# EAGLE library part XA16 (library connectors)
Connector 16 pins, alternating
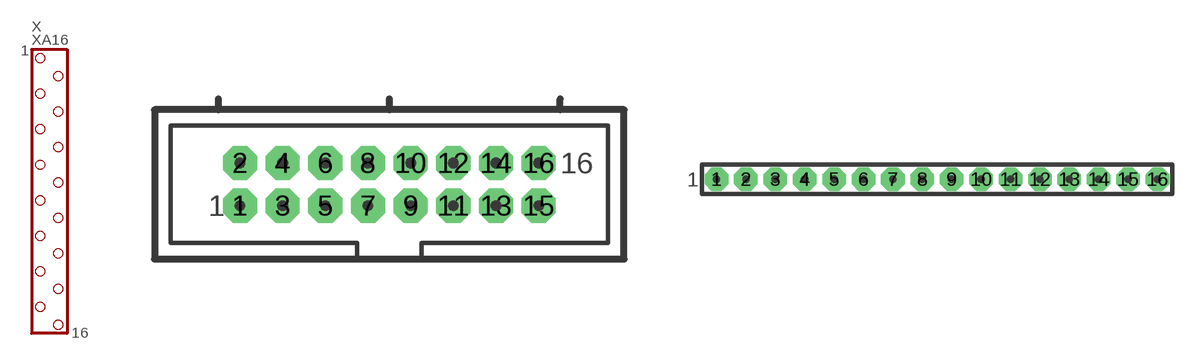
[diagram p4: symbol with the pads of X16N-IDC; footprints X16N-IDC, X16N-SIL]

Designator prefix X

## XA16I  [X16N-IDC]
1  1
2  2
3  3
4  4
5  5
6  6
7  7
8  8
9  9
10  10
11  11
12  12
13  13
14  14
15  15
16  16

## XA16N  [X16N-SIL]
Pads as for X16N-IDC

## XA16D  [X16N-DIL]
Pads as for X16N-IDC

## XA16DR  [X16R-DIL]
Pads as for X16N-IDC

## XA16IR  [X16R-IDC]
Pads as for X16N-IDC

## XA16L  [X16L-SIL]
Pads as for X16N-IDC

## XA16R  [X16R-SIL]
Pads as for X16N-IDC

## XA16  [X16N-IDC]
Pads as for X16N-IDC

## Footprint X16N-IDC (pad centres in mm)
Connector 16 pins, IDC
drill 0.889 pad 2.032 octagon: 1 -8.89,-1.27; 2 -8.89,1.27; 3 -6.35,-1.27; 4 -6.35,1.27; 5 -3.81,-1.27; 6 -3.81,1.27; 7 -1.27,-1.27; 8 -1.27,1.27; 9 1.27,-1.27; 10 1.27,1.27; 11 3.81,-1.27; 12 3.81,1.27; 13 6.35,-1.27; 14 6.35,1.27; 15 8.89,-1.27; 16 8.89,1.27

## Footprint X16N-SIL (pad centres in mm)
Connector 16 pins, SIL
drill 0.889 pad 2.032 octagon: 1 -19.05,0; 2 -16.51,0; 3 -13.97,0; 4 -11.43,0; 5 -8.89,0; 6 -6.35,0; 7 -3.81,0; 8 -1.27,0; 9 1.27,0; 10 3.81,0; 11 6.35,0; 12 8.89,0; 13 11.43,0; 14 13.97,0; 15 16.51,0; 16 19.05,0

## Footprint X16N-DIL (pad centres in mm)
Connector 16 pins, DIL
drill 0.889 pad 2.032 octagon: 1 -8.89,-1.27; 2 -8.89,1.27; 3 -6.35,-1.27; 4 -6.35,1.27; 5 -3.81,-1.27; 6 -3.81,1.27; 7 -1.27,-1.27; 8 -1.27,1.27; 9 1.27,-1.27; 10 1.27,1.27; 11 3.81,-1.27; 12 3.81,1.27; 13 6.35,-1.27; 14 6.35,1.27; 15 8.89,-1.27; 16 8.89,1.27

## Footprint X16R-DIL (pad centres in mm)
Connector 16 pins, DIL, reduced pads
drill 0.889 pad 1.397 square: 1 -8.89,-1.27; 2 -8.89,1.27; 3 -6.35,-1.27; 4 -6.35,1.27; 5 -3.81,-1.27; 6 -3.81,1.27; 7 -1.27,-1.27; 8 -1.27,1.27; 9 1.27,-1.27; 10 1.27,1.27; 11 3.81,-1.27; 12 3.81,1.27; 13 6.35,-1.27; 14 6.35,1.27; 15 8.89,-1.27; 16 8.89,1.27

## Footprint X16R-IDC (pad centres in mm)
Connector 16 pins, IDC, reduced pads
drill 0.889 pad 1.397 square: 1 -8.89,-1.27; 2 -8.89,1.27; 3 -6.35,-1.27; 4 -6.35,1.27; 5 -3.81,-1.27; 6 -3.81,1.27; 7 -1.27,-1.27; 8 -1.27,1.27; 9 1.27,-1.27; 10 1.27,1.27; 11 3.81,-1.27; 12 3.81,1.27; 13 6.35,-1.27; 14 6.35,1.27; 15 8.89,-1.27; 16 8.89,1.27

## Footprint X16L-SIL (pad centres in mm)
Connector 16 pins, SIL, long pads
drill 0.889 pad 1.397 long: 1 -19.05,0; 2 -16.51,0; 3 -13.97,0; 4 -11.43,0; 5 -8.89,0; 6 -6.35,0; 7 -3.81,0; 8 -1.27,0; 9 1.27,0; 10 3.81,0; 11 6.35,0; 12 8.89,0; 13 11.43,0; 14 13.97,0; 15 16.51,0; 16 19.05,0

## Footprint X16R-SIL (pad centres in mm)
Connector 16 pins, SIL, reduced pads
drill 0.889 pad 1.397 square: 1 -19.05,0; 2 -16.51,0; 3 -13.97,0; 4 -11.43,0; 5 -8.89,0; 6 -6.35,0; 7 -3.81,0; 8 -1.27,0; 9 1.27,0; 10 3.81,0; 11 6.35,0; 12 8.89,0; 13 11.43,0; 14 13.97,0; 15 16.51,0; 16 19.05,0